# Altium footprint library NEW_PCB_2021-11-03.PcbLib: 1 footprints
Each footprint in its own frame and in the unit in brackets; x right, y up, seen from the top. Pads: shape width x height; smd on the part's side, far side on the other; paste and mask are expansions set on the pad; w line width, h text height; cw(c..) or ccw(c..) is an arc to the next point about the centre after c.
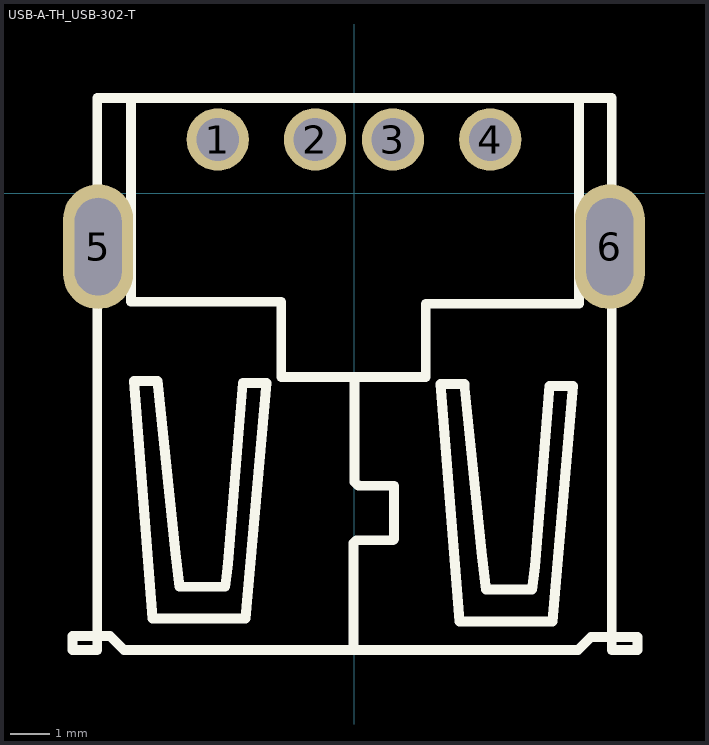
[diagram p0: the footprint, top view; thin cyan lines are the x and y axes]

## USB-A-TH_USB-302-T [mm]
pads (6):
  round 1.6 hole 1.1: 1(-3.5,1.375) 2(-1,1.375) 3(1,1.375) 4(3.5,1.375)
  oval 1.8x3.2 hole 1.2 slot 2.5 at 90 deg: 5(-6.569,-1.375) 6(6.569,-1.376)
Top Overlay:
  lines w0.254: -7.226,-11.731 -6.591,-11.731 ; -7.224,-11.731 -7.226,-11.375 -6.261,-11.375 -5.905,-11.731 5.753,-11.731 6.083,-11.401 7.277,-11.401 7.277,-11.731 6.617,-11.731 ; -6.591,-11.718 -6.591,2.442 6.609,2.442 ; -5.728,2.417 -5.728,-2.79 -1.867,-2.79 -1.867,-4.721 1.841,-4.721 1.841,-2.841 5.779,-2.841 5.779,2.442 ; -0.013,-11.731 -0.013,-8.988 0.064,-8.912 1.003,-8.912 1.029,-8.886 1.029,-7.515 0.114,-7.515 0.013,-7.413 0.013,-4.746 ; 6.617,-11.718 6.617,2.442 ; -5.651,-4.822 -5.169,-10.918 -2.781,-10.918 -2.248,-4.873 -2.857,-4.873 -3.231,-9.511 -3.305,-10.105 -4.483,-10.105 -4.585,-9.242 -5.042,-4.822 -5.651,-4.822 ; 2.222,-4.898 2.705,-10.994 5.093,-10.994 5.626,-4.949 5.016,-4.949 4.643,-9.587 4.569,-10.182 3.391,-10.182 3.289,-9.318 2.832,-4.898 2.222,-4.898